# EAGLE library part 10132797-0271 (library con-fci)
Amphenol FCI: 20 pin 5.3MM SMD Connector 0.5mm pitch
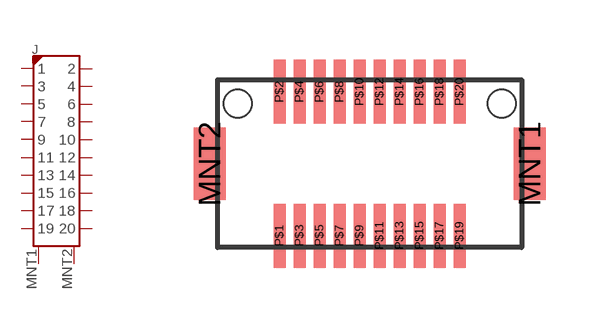
[diagram p8: symbol with the pads of 10132797-02X1; footprint 10132797-02X1]

Designator prefix J

## 10132797-0271 (DIGIKEY: 609-5232-1-ND; MFR: Amphenol FCI; MPN: 10132797-027100LF)  [10132797-02X1]
MNT1  P$1
MNT2  P$2
P$1  1
P$2  2
P$3  3
P$4  4
P$5  5
P$6  6
P$7  7
P$8  8
P$9  9
P$10  10
P$11  11
P$12  12
P$13  13
P$14  14
P$15  15
P$16  16
P$17  17
P$18  18
P$19  19
P$20  20

## Footprint 10132797-02X1 (pad centres in mm)
Amphenol FCI: 10132797-02X10 plug w/ Hold Down and Polarization peg
smd 0.8 x 1.8: MNT1 4,0; MNT2 -4,0
smd 0.3 x 1.6: P$1 -2.25,-1.8; P$2 -2.25,1.8; P$3 -1.75,-1.8; P$4 -1.75,1.8; P$5 -1.25,-1.8; P$6 -1.25,1.8; P$7 -0.75,-1.8; P$8 -0.75,1.8; P$9 -0.25,-1.8; P$10 -0.25,1.8; P$11 0.25,-1.8; P$12 0.25,1.8; P$13 0.75,-1.8; P$14 0.75,1.8; P$15 1.25,-1.8; P$16 1.25,1.8; P$17 1.75,-1.8; P$18 1.75,1.8; P$19 2.25,-1.8; P$20 2.25,1.8
hole 0.7 at -3.3,1.5
hole 0.7 at 3.3,1.5